# Altium schematic symbol library SCH - MCU - STM32 - ST MICROELECTRONICS STM32L162VEYX WLCSP104.SchLib: 1 symbol
Pins are listed as number, name and electrical type; pins without a type are passive.

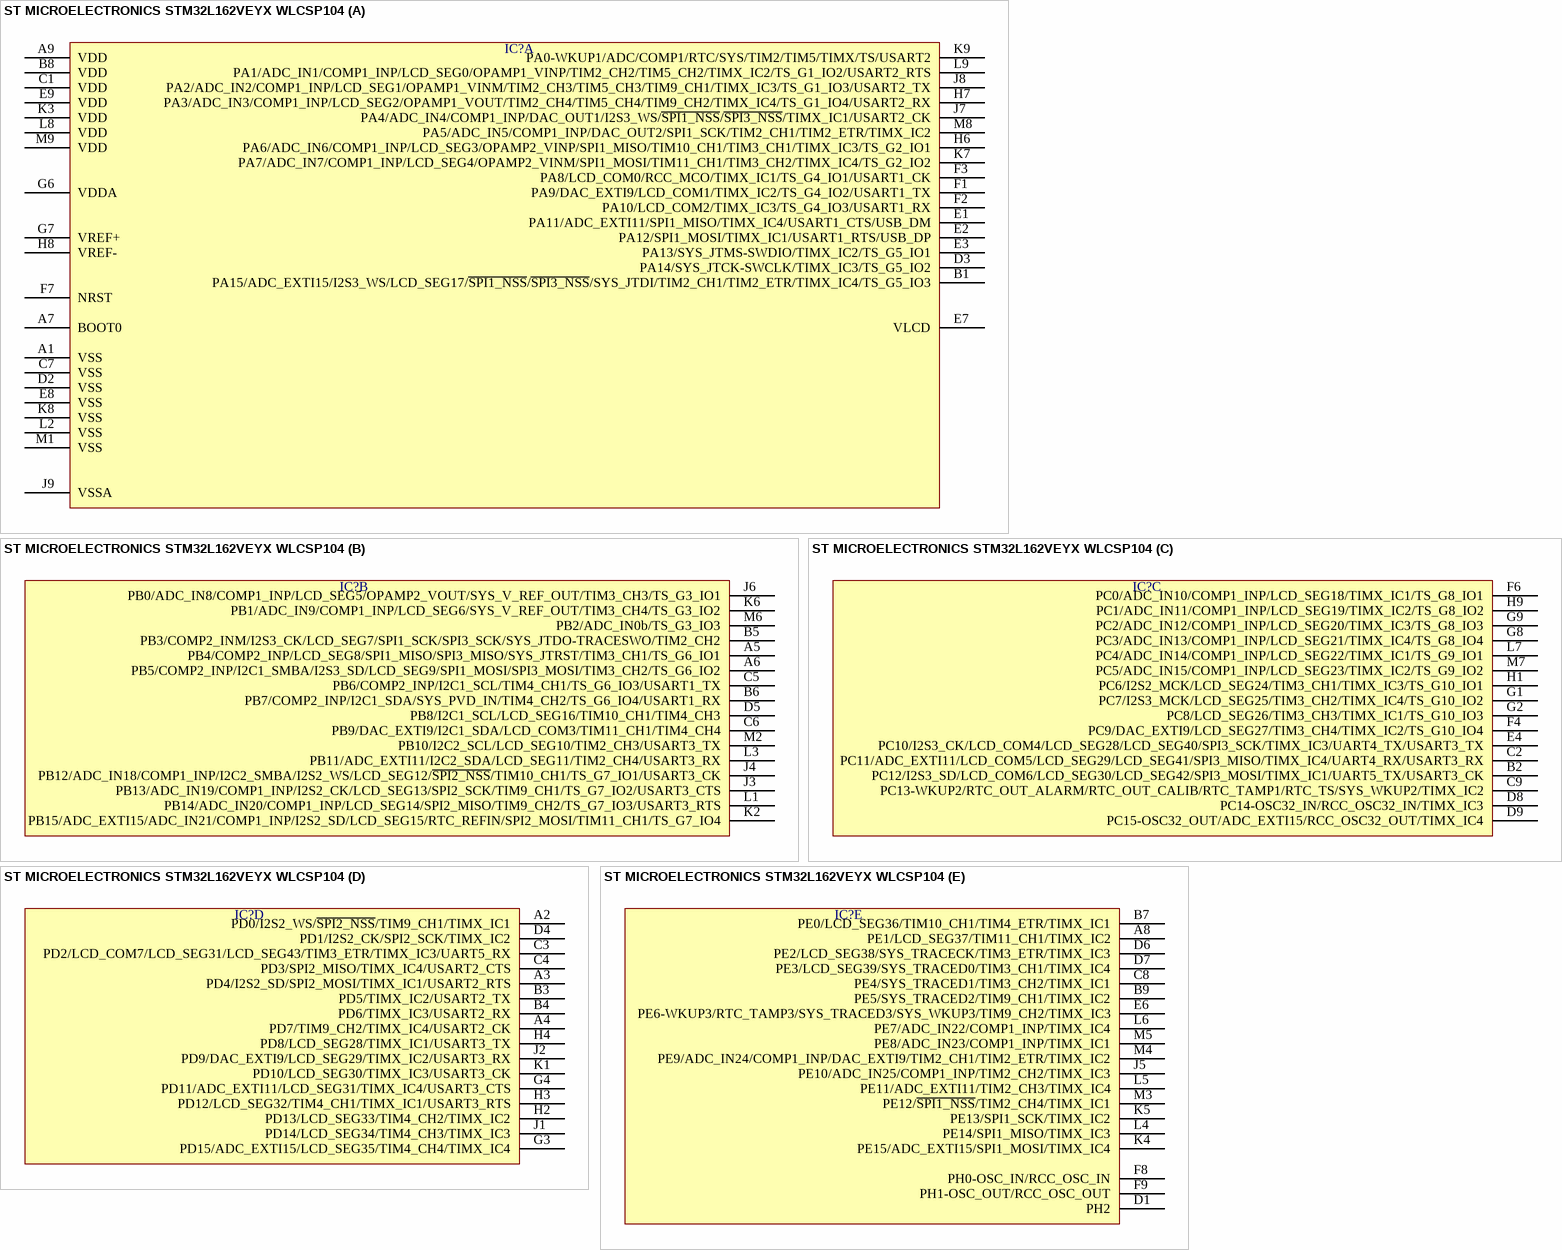
[diagram p0: symbol ST MICROELECTRONICS STM32L162VEYX WLCSP104]

## ST MICROELECTRONICS STM32L162VEYX WLCSP104
designator IC?  (value not drawn)
part A pins: A1 VSS, A7 BOOT0, A9 VDD, B1 PA15/ADC_EXTI15/I2S3_WS/LCD_SEG17/~{SPI1_NSS}/~{SPI3_NSS}/SYS_JTDI/TIM2_CH1/TIM2_ETR/TIMX_IC4/TS_G5_IO3, B8 VDD, C1 VDD, C7 VSS, D2 VSS, D3 PA14/SYS_JTCK-SWCLK/TIMX_IC3/TS_G5_IO2, E1 PA11/ADC_EXTI11/SPI1_MISO/TIMX_IC4/USART1_CTS/USB_DM, E2 PA12/SPI1_MOSI/TIMX_IC1/USART1_RTS/USB_DP, E3 PA13/SYS_JTMS-SWDIO/TIMX_IC2/TS_G5_IO1, E7 VLCD, E8 VSS, E9 VDD, F1 PA9/DAC_EXTI9/LCD_COM1/TIMX_IC2/TS_G4_IO2/USART1_TX, F2 PA10/LCD_COM2/TIMX_IC3/TS_G4_IO3/USART1_RX, F3 PA8/LCD_COM0/RCC_MCO/TIMX_IC1/TS_G4_IO1/USART1_CK, F7 NRST, G6 VDDA, G7 VREF+, H6 PA6/ADC_IN6/COMP1_INP/LCD_SEG3/OPAMP2_VINP/SPI1_MISO/TIM10_CH1/TIM3_CH1/TIMX_IC3/TS_G2_IO1, H7 PA3/ADC_IN3/COMP1_INP/LCD_SEG2/OPAMP1_VOUT/TIM2_CH4/TIM5_CH4/TIM9_CH2/TIMX_IC4/TS_G1_IO4/USART2_RX, H8 VREF-, J7 PA4/ADC_IN4/COMP1_INP/DAC_OUT1/I2S3_WS/~{SPI1_NSS}/~{SPI3_NSS}/TIMX_IC1/USART2_CK, J8 PA2/ADC_IN2/COMP1_INP/LCD_SEG1/OPAMP1_VINM/TIM2_CH3/TIM5_CH3/TIM9_CH1/TIMX_IC3/TS_G1_IO3/USART2_TX, J9 VSSA, K3 VDD, K7 PA7/ADC_IN7/COMP1_INP/LCD_SEG4/OPAMP2_VINM/SPI1_MOSI/TIM11_CH1/TIM3_CH2/TIMX_IC4/TS_G2_IO2, K8 VSS, K9 PA0-WKUP1/ADC/COMP1/RTC/SYS/TIM2/TIM5/TIMX/TS/USART2, L2 VSS, L8 VDD, L9 PA1/ADC_IN1/COMP1_INP/LCD_SEG0/OPAMP1_VINP/TIM2_CH2/TIM5_CH2/TIMX_IC2/TS_G1_IO2/USART2_RTS, M1 VSS, M8 PA5/ADC_IN5/COMP1_INP/DAC_OUT2/SPI1_SCK/TIM2_CH1/TIM2_ETR/TIMX_IC2, M9 VDD
part B pins: A5 PB4/COMP2_INP/LCD_SEG8/SPI1_MISO/SPI3_MISO/SYS_JTRST/TIM3_CH1/TS_G6_IO1, A6 PB5/COMP2_INP/I2C1_SMBA/I2S3_SD/LCD_SEG9/SPI1_MOSI/SPI3_MOSI/TIM3_CH2/TS_G6_IO2, B5 PB3/COMP2_INM/I2S3_CK/LCD_SEG7/SPI1_SCK/SPI3_SCK/SYS_JTDO-TRACESWO/TIM2_CH2, B6 PB7/COMP2_INP/I2C1_SDA/SYS_PVD_IN/TIM4_CH2/TS_G6_IO4/USART1_RX, C5 PB6/COMP2_INP/I2C1_SCL/TIM4_CH1/TS_G6_IO3/USART1_TX, C6 PB9/DAC_EXTI9/I2C1_SDA/LCD_COM3/TIM11_CH1/TIM4_CH4, D5 PB8/I2C1_SCL/LCD_SEG16/TIM10_CH1/TIM4_CH3, J3 PB13/ADC_IN19/COMP1_INP/I2S2_CK/LCD_SEG13/SPI2_SCK/TIM9_CH1/TS_G7_IO2/USART3_CTS, J4 PB12/ADC_IN18/COMP1_INP/I2C2_SMBA/I2S2_WS/LCD_SEG12/~{SPI2_NSS}/TIM10_CH1/TS_G7_IO1/USART3_CK, J6 PB0/ADC_IN8/COMP1_INP/LCD_SEG5/OPAMP2_VOUT/SYS_V_REF_OUT/TIM3_CH3/TS_G3_IO1, K2 PB15/ADC_EXTI15/ADC_IN21/COMP1_INP/I2S2_SD/LCD_SEG15/RTC_REFIN/SPI2_MOSI/TIM11_CH1/TS_G7_IO4, K6 PB1/ADC_IN9/COMP1_INP/LCD_SEG6/SYS_V_REF_OUT/TIM3_CH4/TS_G3_IO2, L1 PB14/ADC_IN20/COMP1_INP/LCD_SEG14/SPI2_MISO/TIM9_CH2/TS_G7_IO3/USART3_RTS, L3 PB11/ADC_EXTI11/I2C2_SDA/LCD_SEG11/TIM2_CH4/USART3_RX, M2 PB10/I2C2_SCL/LCD_SEG10/TIM2_CH3/USART3_TX, M6 PB2/ADC_IN0b/TS_G3_IO3
part C pins: B2 PC12/I2S3_SD/LCD_COM6/LCD_SEG30/LCD_SEG42/SPI3_MOSI/TIMX_IC1/UART5_TX/USART3_CK, C2 PC11/ADC_EXTI11/LCD_COM5/LCD_SEG29/LCD_SEG41/SPI3_MISO/TIMX_IC4/UART4_RX/USART3_RX, C9 PC13-WKUP2/RTC_OUT_ALARM/RTC_OUT_CALIB/RTC_TAMP1/RTC_TS/SYS_WKUP2/TIMX_IC2, D8 PC14-OSC32_IN/RCC_OSC32_IN/TIMX_IC3, D9 PC15-OSC32_OUT/ADC_EXTI15/RCC_OSC32_OUT/TIMX_IC4, E4 PC10/I2S3_CK/LCD_COM4/LCD_SEG28/LCD_SEG40/SPI3_SCK/TIMX_IC3/UART4_TX/USART3_TX, F4 PC9/DAC_EXTI9/LCD_SEG27/TIM3_CH4/TIMX_IC2/TS_G10_IO4, F6 PC0/ADC_IN10/COMP1_INP/LCD_SEG18/TIMX_IC1/TS_G8_IO1, G1 PC7/I2S3_MCK/LCD_SEG25/TIM3_CH2/TIMX_IC4/TS_G10_IO2, G2 PC8/LCD_SEG26/TIM3_CH3/TIMX_IC1/TS_G10_IO3, G8 PC3/ADC_IN13/COMP1_INP/LCD_SEG21/TIMX_IC4/TS_G8_IO4, G9 PC2/ADC_IN12/COMP1_INP/LCD_SEG20/TIMX_IC3/TS_G8_IO3, H1 PC6/I2S2_MCK/LCD_SEG24/TIM3_CH1/TIMX_IC3/TS_G10_IO1, H9 PC1/ADC_IN11/COMP1_INP/LCD_SEG19/TIMX_IC2/TS_G8_IO2, L7 PC4/ADC_IN14/COMP1_INP/LCD_SEG22/TIMX_IC1/TS_G9_IO1, M7 PC5/ADC_IN15/COMP1_INP/LCD_SEG23/TIMX_IC2/TS_G9_IO2
part D pins: A2 PD0/I2S2_WS/~{SPI2_NSS}/TIM9_CH1/TIMX_IC1, A3 PD4/I2S2_SD/SPI2_MOSI/TIMX_IC1/USART2_RTS, A4 PD7/TIM9_CH2/TIMX_IC4/USART2_CK, B3 PD5/TIMX_IC2/USART2_TX, B4 PD6/TIMX_IC3/USART2_RX, C3 PD2/LCD_COM7/LCD_SEG31/LCD_SEG43/TIM3_ETR/TIMX_IC3/UART5_RX, C4 PD3/SPI2_MISO/TIMX_IC4/USART2_CTS, D4 PD1/I2S2_CK/SPI2_SCK/TIMX_IC2, G3 PD15/ADC_EXTI15/LCD_SEG35/TIM4_CH4/TIMX_IC4, G4 PD11/ADC_EXTI11/LCD_SEG31/TIMX_IC4/USART3_CTS, H2 PD13/LCD_SEG33/TIM4_CH2/TIMX_IC2, H3 PD12/LCD_SEG32/TIM4_CH1/TIMX_IC1/USART3_RTS, H4 PD8/LCD_SEG28/TIMX_IC1/USART3_TX, J1 PD14/LCD_SEG34/TIM4_CH3/TIMX_IC3, J2 PD9/DAC_EXTI9/LCD_SEG29/TIMX_IC2/USART3_RX, K1 PD10/LCD_SEG30/TIMX_IC3/USART3_CK
part E pins: A8 PE1/LCD_SEG37/TIM11_CH1/TIMX_IC2, B7 PE0/LCD_SEG36/TIM10_CH1/TIM4_ETR/TIMX_IC1, B9 PE5/SYS_TRACED2/TIM9_CH1/TIMX_IC2, C8 PE4/SYS_TRACED1/TIM3_CH2/TIMX_IC1, D1 PH2, D6 PE2/LCD_SEG38/SYS_TRACECK/TIM3_ETR/TIMX_IC3, D7 PE3/LCD_SEG39/SYS_TRACED0/TIM3_CH1/TIMX_IC4, E6 PE6-WKUP3/RTC_TAMP3/SYS_TRACED3/SYS_WKUP3/TIM9_CH2/TIMX_IC3, F8 PH0-OSC_IN/RCC_OSC_IN, F9 PH1-OSC_OUT/RCC_OSC_OUT, J5 PE10/ADC_IN25/COMP1_INP/TIM2_CH2/TIMX_IC3, K4 PE15/ADC_EXTI15/SPI1_MOSI/TIMX_IC4, K5 PE13/SPI1_SCK/TIMX_IC2, L4 PE14/SPI1_MISO/TIMX_IC3, L5 PE11/ADC_EXTI11/TIM2_CH3/TIMX_IC4, L6 PE7/ADC_IN22/COMP1_INP/TIMX_IC4, M3 PE12/~{SPI1_NSS}/TIM2_CH4/TIMX_IC1, M4 PE9/ADC_IN24/COMP1_INP/DAC_EXTI9/TIM2_CH1/TIM2_ETR/TIMX_IC2, M5 PE8/ADC_IN23/COMP1_INP/TIMX_IC1